# Altium footprint library pcblib.PcbLib: 43 footprints (part 2 of 3)
Each footprint in its own frame and in the unit in brackets; x right, y up, seen from the top. Pads: shape width x height; smd on the part's side, far side on the other; paste and mask are expansions set on the pad; w line width, h text height; cw(c..) or ccw(c..) is an arc to the next point about the centre after c.
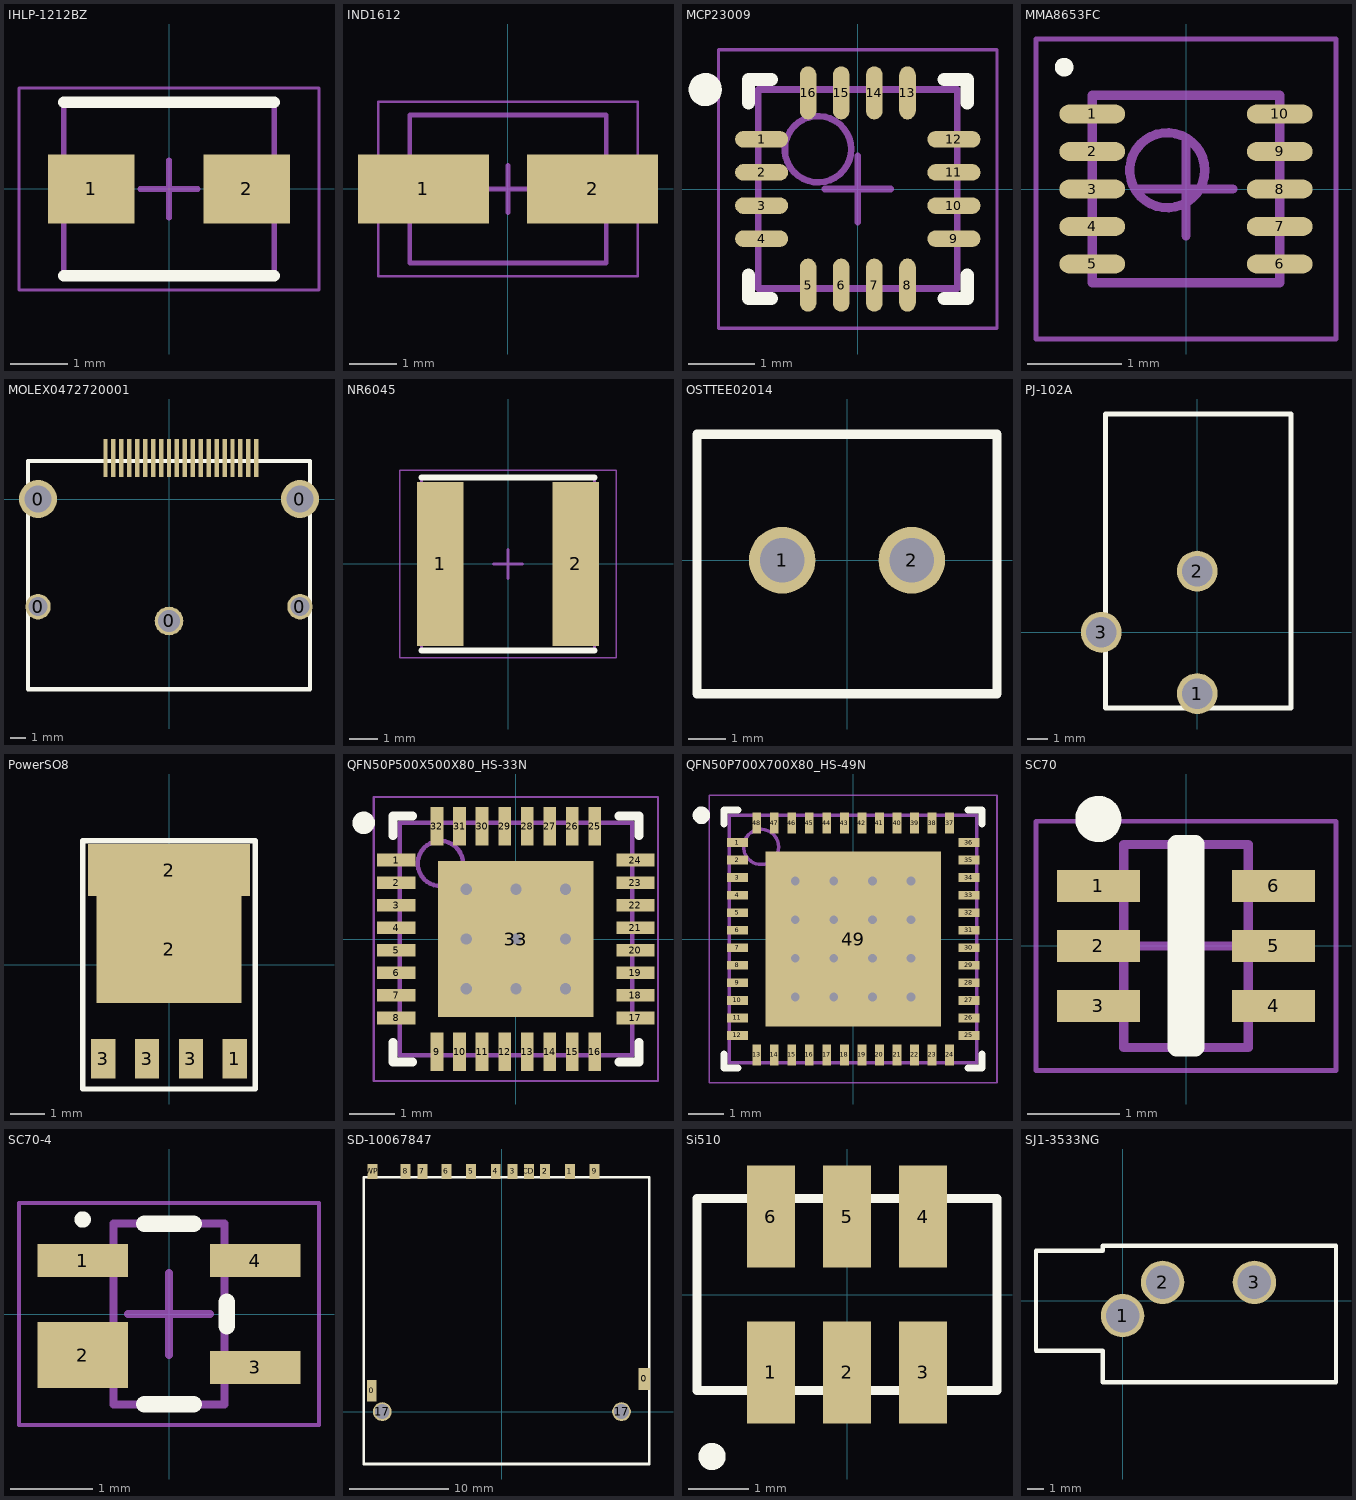
[diagram p1: the footprints below, top view; thin cyan lines are the x and y axes]

## IHLP-1212BZ [mm]
height 2
pads (2):
  rect 1.5x1.2 smd: 1(-1.35,0) 2(1.35,0)
Top Overlay:
  lines w0.2: -1.825,-1.5 1.825,-1.5 ; -1.825,1.5 1.825,1.5
Mechanical 13:
  lines w0.1: -1.825,-1.5 1.825,-1.5 1.825,1.5 -1.825,1.5 -1.825,-1.5
Mechanical 15:
  lines w0.05: -2.6,-1.75 2.6,-1.75 2.6,1.75 -2.6,1.75 -2.6,-1.75
  lines w0.1: -0.5,0 0.5,0 ; 0,-0.5 0,0.5
3D body: height 2, standoff 0, extent 1.625,-1.5 1.825,1.5
3D body: height 2, standoff 0, extent -1.825,-1.5 -1.625,1.5
3D body: height 2, standoff 0, extent -1.625,-1.5 1.625,1.5

## IND1612 [mm]
height 2.62
pads (2):
  rect 2.77x1.47 smd: 1(-1.79,0) 2(1.79,0)
Mechanical 13:
  lines w0.1: -2.08,-1.565 2.08,-1.565 2.08,1.565 -2.08,1.565 -2.08,-1.565
Mechanical 15:
  lines w0.05: -2.75,-1.85 2.75,-1.85 2.75,1.85 -2.75,1.85 -2.75,-1.85
  lines w0.1: -0.5,0 0.5,0 ; 0,-0.5 0,0.5
3D body: height 2.62, standoff 0, extent 0.56,-1.565 2.08,1.565
3D body: height 2.62, standoff 0, extent -2.08,-1.565 -0.56,1.565
3D body: height 2.62, standoff 0, extent -0.56,-1.565 0.56,1.565

## MCP23009 [mm] "QFN, 16-Leads, Body 3.00x3.00mm, Pitch 0.50mm, Thermal Pad 1.20x1.20mm, IPC Medium Density"
height 0.9
pads (16):
  oval 0.8x0.25 smd mask+0.051: 1(-1.45,0.75) 2(-1.45,0.25) 3(-1.45,-0.25) 4(-1.45,-0.75) 9(1.45,-0.75) 10(1.45,-0.25) 11(1.45,0.25) 12(1.45,0.75)
  oval 0.25x0.8 smd mask+0.051: 5(-0.75,-1.45) 6(-0.25,-1.45) 7(0.25,-1.45) 8(0.75,-1.45) 13(0.75,1.45) 14(0.25,1.45) 15(-0.25,1.45) 16(-0.75,1.45)
Top Overlay:
  circle w0.25: c-2.3,1.5 r0.125
  lines w0.2: -1.65,-1.3 -1.65,-1.65 -1.3,-1.65 ; -1.65,1.3 -1.65,1.65 -1.3,1.65 ; 1.3,-1.65 1.65,-1.65 1.65,-1.3 ; 1.3,1.65 1.65,1.65 1.65,1.3
Mechanical 13:
  circle w0.1: c-0.6,0.6 r0.5
  lines w0.1: -1.5,-1.5 -1.5,1.5 1.5,1.5 1.5,-1.5 -1.5,-1.5
Mechanical 15:
  lines w0.05: -2.1,-2.1 -2.1,2.1 2.1,2.1 2.1,-2.1 -2.1,-2.1
  lines w0.1: -0.5,0 0.5,0 ; 0,-0.5 0,0.5
3D body: height 0.9, standoff 0, extent -1.5,-1.5 1.5,1.5

## MMA8653FC [mm]
height 1
pads (10):
  oval 0.7x0.2 smd mask+0.049: 1(-1,0.8) 2(-1,0.4) 3(-1,0) 4(-1,-0.4) 5(-1,-0.8) 6(1,-0.8) 7(1,-0.4) 8(1,0) 9(1,0.4) 10(1,0.8)
Top Overlay:
  circle w0.1: c-1.3,1.3 r0.05
Mechanical 13:
  circle w0.1: c-0.2,0.2 r0.4
  lines w0.1: -1,-1 -1,1 1,1 1,-1 -1,-1
Mechanical 15:
  lines w0.05: -1.6,-1.6 -1.6,1.6 1.6,1.6 1.6,-1.6 -1.6,-1.6
  lines w0.1: -0.5,0 0.5,0 ; 0,-0.5 0,0.5
3D body: height 1, standoff 0, extent -1,-1 1,1

## MOLEX0472720001 [mm]
pads (25):
  round 1.6 hole 1.2: 0(-8.25,-6.78) 0(8.25,-6.78)
  round 2.4 hole 1.7: 0(-8.25,0) 0(8.25,0)
  round 1.8 hole 1.4: 0(0,-7.68)
  rect 0.28x2.4 smd mask+0.051: 1(5.5,2.6) 2(5,2.6) 3(4.5,2.6) 4(4,2.6) 5(3.5,2.6) 6(3,2.6) 7(2.5,2.6) 8(2,2.6) 9(1.5,2.6) 10(1,2.6) 11(0.5,2.6) 12(0,2.6) 13(-0.5,2.6) 14(-1,2.6) 15(-1.5,2.6) 16(-2,2.6) 17(-2.5,2.6) 18(-3,2.6) 19(-3.5,2.6) 20(-4,2.6)
Top Overlay:
  lines w0.254: -8.895,-11.98 8.895,-11.98 8.895,2.41 -8.895,2.41 -8.895,-11.98
3D body: height 6.65, standoff -2.1, extent -8.9,-11.963 8.885,2.927

## NR6045 [mm]
height 4.5
pads (2):
  rect 1.6x5.7 smd: 1(-2.35,0) 2(2.35,0)
Top Overlay:
  lines w0.2: -3,-3 3,-3 ; -3,3 3,3
Mechanical 13:
  lines w0.1: -3,-3 3,-3 3,3 -3,3 -3,-3
Mechanical 15:
  lines w0.05: -3.75,-3.25 3.75,-3.25 3.75,3.25 -3.75,3.25 -3.75,-3.25
  lines w0.1: -0.5,0 0.5,0 ; 0,-0.5 0,0.5
3D body: height 4.5, standoff 0, extent 2.8,-3 3,3
3D body: height 4.5, standoff 0, extent -3,-3 -2.8,3
3D body: height 4.5, standoff 0, extent -2.8,-3 2.8,3

## OSTTEE02014 [mm]
pads (2):
  round 1.8 hole 1.2: 1(-1.75,0) 2(1.75,0)
Top Overlay:
  lines w0.254: -4.05,-3.6 4.05,-3.6 4.05,3.4 -4.05,3.4 -4.05,-3.6

## PJ-102A [mm]
pads (3):
  round 2 hole 1.5: 1(0,-3) 2(0,3) 3(-4.7,0)
Top Overlay:
  lines w0.254: -4.5,-3.7 4.6,-3.7 4.6,10.7 -4.5,10.7 -4.5,-3.7
3D body: height 11.5, standoff -3, extent -4.825,-3.625 4.575,10.775

## PowerSO8 [mm]
pads (6):
  rect 0.7x1.15 smd paste-0.05: 1(1.905,-2.725) 3(-1.905,-2.725) 3(-0.635,-2.725) 3(0.635,-2.725)
  rect 4.2x3.1 smd paste-999 mask+0.075: 2(0,0.45)
  rect 4.7x1.5 smd paste-999 mask+0.075: 2(0,2.75)
Top Overlay:
  lines w0.15: -2.5,-3.6 -2.5,3.6 2.5,3.6 2.5,-3.6 -2.5,-3.6
Top Paste:
  rectangle: -0.925,2.55 -0.325,3.45
  rectangle: 1.575,2.55 2.175,3.45
  rectangle: 0.325,2.55 0.925,3.45
  rectangle: -2.175,2.55 -1.575,3.45
  rectangle: -0.45,-0.85 0.45,-0.25
  rectangle: 0.7,-0.85 1.6,-0.25
  rectangle: -1.6,-0.85 -0.7,-0.25
  rectangle: -0.45,0 0.45,0.6
  rectangle: 0.7,0 1.6,0.6
  rectangle: -1.6,0 -0.7,0.6
  rectangle: -1.6,0.85 -0.7,1.45
  rectangle: 0.7,0.85 1.6,1.45
  rectangle: -0.45,0.85 0.45,1.45

## QFN50P500X500X80_HS-33N [mm] "QFN, 32-Leads, Body 5.00x5.00mm, Pitch 0.50mm, Thermal Pad 3.45x3.45mm, IPC Medium Density"
height 0.8
pads (33):
  rect 0.85x0.28 smd mask+0.051: 1(-2.65,1.75) 2(-2.65,1.25) 3(-2.65,0.75) 4(-2.65,0.25) 5(-2.65,-0.25) 6(-2.65,-0.75) 7(-2.65,-1.25) 8(-2.65,-1.75) 17(2.65,-1.75) 18(2.65,-1.25) 19(2.65,-0.75) 20(2.65,-0.25) 21(2.65,0.25) 22(2.65,0.75) 23(2.65,1.25) 24(2.65,1.75)
  rect 0.28x0.85 smd mask+0.051: 9(-1.75,-2.5) 10(-1.25,-2.5) 11(-0.75,-2.5) 12(-0.25,-2.5) 13(0.25,-2.5) 14(0.75,-2.5) 15(1.25,-2.5) 16(1.75,-2.5) 25(1.75,2.5) 26(1.25,2.5) 27(0.75,2.5) 28(0.25,2.5) 29(-0.25,2.5) 30(-0.75,2.5) 31(-1.25,2.5) 32(-1.75,2.5)
  rect 3.45x3.45 smd paste-1000 mask+0.051: 33(0,0)
via -1.1,1.1 diameter 0.5 hole 0.25
via 0,1.1 diameter 0.5 hole 0.25
via 1.1,1.1 diameter 0.5 hole 0.25
via -1.1,0 diameter 0.5 hole 0.25
via 0,0 diameter 0.5 hole 0.25
via 1.1,0 diameter 0.5 hole 0.25
via -1.1,-1.1 diameter 0.5 hole 0.25
via 0,-1.1 diameter 0.5 hole 0.25
via 1.1,-1.1 diameter 0.5 hole 0.25
Top Overlay:
  circle w0.25: c-3.375,2.575 r0.125
  lines w0.2: -2.725,-2.29 -2.725,-2.725 -2.29,-2.725 ; -2.725,2.29 -2.725,2.725 -2.29,2.725 ; 2.29,-2.725 2.725,-2.725 2.725,-2.29 ; 2.29,2.725 2.725,2.725 2.725,2.29
Top Paste:
  rectangle: 0.15,-1.6 1.6,-0.15
  rectangle: -1.6,-1.6 -0.15,-0.15
  rectangle: 0.15,0.15 1.6,1.6
  rectangle: -1.6,0.15 -0.15,1.6
Mechanical 13:
  circle w0.1: c-1.675,1.675 r0.5
  lines w0.1: -2.575,-2.575 -2.575,2.575 2.575,2.575 2.575,-2.575 -2.575,-2.575
Mechanical 15:
  lines w0.05: -3.15,-3.15 -3.15,3.15 3.15,3.15 3.15,-3.15 -3.15,-3.15
  lines w0.1: -0.5,0 0.5,0 ; 0,-0.5 0,0.5
3D body: height 0.8, standoff 0.01, extent -2.575,-2.575 2.575,2.575

## QFN50P700X700X80_HS-49N [mm] "QFN, 48-Leads, Body 7.00x7.00mm, Pitch 0.50mm, Thermal Pad 5.00x5.00mm, IPC Medium Density"
height 0.8
pads (49):
  rect 0.6x0.25 smd paste+0 mask+0.07: 1(-3.3,2.75) 2(-3.3,2.25) 3(-3.3,1.75) 4(-3.3,1.25) 5(-3.3,0.75) 6(-3.3,0.25) 7(-3.3,-0.25) 8(-3.3,-0.75) 9(-3.3,-1.25) 10(-3.3,-1.75) 11(-3.3,-2.25) 12(-3.3,-2.75) 25(3.3,-2.75) 26(3.3,-2.25) 27(3.3,-1.75) 28(3.3,-1.25) 29(3.3,-0.75) 30(3.3,-0.25) 31(3.3,0.25) 32(3.3,0.75) 33(3.3,1.25) 34(3.3,1.75) 35(3.3,2.25) 36(3.3,2.75)
  rect 0.25x0.6 smd paste+0 mask+0.07: 13(-2.75,-3.3) 14(-2.25,-3.3) 15(-1.75,-3.3) 16(-1.25,-3.3) 17(-0.75,-3.3) 18(-0.25,-3.3) 19(0.25,-3.3) 20(0.75,-3.3) 21(1.25,-3.3) 22(1.75,-3.3) 23(2.25,-3.3) 24(2.75,-3.3) 37(2.75,3.3) 38(2.25,3.3) 39(1.75,3.3) 40(1.25,3.3) 41(0.75,3.3) 42(0.25,3.3) 43(-0.25,3.3) 44(-0.75,3.3) 45(-1.25,3.3) 46(-1.75,3.3) 47(-2.25,3.3) 48(-2.75,3.3)
  rect 5x5 smd paste-999: 49(0,0)
via 1.65,-1.65 diameter 0.5 hole 0.25
via 0.55,-1.65 diameter 0.5 hole 0.25
via -0.55,-1.65 diameter 0.5 hole 0.25
via -1.65,-1.65 diameter 0.5 hole 0.25
via 1.65,-0.55 diameter 0.5 hole 0.25
via 0.55,-0.55 diameter 0.5 hole 0.25
via -0.55,-0.55 diameter 0.5 hole 0.25
via -1.65,-0.55 diameter 0.5 hole 0.25
via 1.65,0.55 diameter 0.5 hole 0.25
via 0.55,0.55 diameter 0.5 hole 0.25
via -0.55,0.55 diameter 0.5 hole 0.25
via -1.65,0.55 diameter 0.5 hole 0.25
via 1.65,1.65 diameter 0.5 hole 0.25
via 0.55,1.65 diameter 0.5 hole 0.25
via -0.55,1.65 diameter 0.5 hole 0.25
via -1.65,1.65 diameter 0.5 hole 0.25
Top Overlay:
  circle w0.25: c-4.325,3.525 r0.125
  lines w0.2: -3.675,-3.275 -3.675,-3.675 -3.275,-3.675 ; -3.675,3.275 -3.675,3.675 -3.275,3.675 ; 3.275,-3.675 3.675,-3.675 3.675,-3.275 ; 3.275,3.675 3.675,3.675 3.675,3.275
Top Paste:
  rectangle: 1.23,-2.16 2.16,-1.23
  rectangle: 0.1,-2.16 1.03,-1.23
  rectangle: -2.16,-2.16 -1.23,-1.23
  rectangle: -1.03,-2.16 -0.1,-1.23
  rectangle: -1.03,0.1 -0.1,1.03
  rectangle: -2.16,0.1 -1.23,1.03
  rectangle: 0.1,0.1 1.03,1.03
  rectangle: 1.23,0.1 2.16,1.03
  rectangle: -1.03,1.23 -0.1,2.16
  rectangle: -2.16,1.23 -1.23,2.16
  rectangle: 0.1,1.23 1.03,2.16
  rectangle: 1.23,1.23 2.16,2.16
  rectangle: -1.03,-1.03 -0.1,-0.1
  rectangle: -2.16,-1.03 -1.23,-0.1
  rectangle: 0.1,-1.03 1.03,-0.1
  rectangle: 1.23,-1.03 2.16,-0.1
Mechanical 13:
  circle w0.1: c-2.625,2.625 r0.5
  lines w0.1: -3.525,-3.525 3.525,-3.525 3.525,3.525 -3.525,3.525 -3.525,-3.525
Mechanical 15:
  lines w0.05: -4.1,-4.1 4.1,-4.1 4.1,4.1 -4.1,4.1 -4.1,-4.1
  lines w0.1: -0.5,0 0.5,0 ; 0,-0.5 0,0.5
3D body: height 0.8, standoff 0, extent -3.525,-3.525 3.525,3.525

## SC70 [mm] "SOT23, 6-Leads, Body 2.00x2.10mm, Pitch 0.65mm, IPC Medium Density"
height 1.1
pads (6):
  rect 0.9x0.35 smd: 1(-0.95,0.65) 2(-0.95,0) 3(-0.95,-0.65) 4(0.95,-0.65) 5(0.95,0) 6(0.95,0.65)
Top Overlay:
  circle w0.25: c-0.95,1.375 r0.125
  lines w0.2: -0.1,-1.1 0.1,-1.1 0.1,1.1 -0.1,1.1 -0.1,-1.1
Mechanical 13:
  lines w0.1: -0.675,-1.1 -0.675,1.1 0.675,1.1 0.675,-1.1 -0.675,-1.1
Mechanical 15:
  lines w0.05: -1.625,-1.35 -1.625,1.35 1.625,1.35 1.625,-1.35 -1.625,-1.35
  lines w0.1: -0.5,0 0.5,0 ; 0,-0.5 0,0.5
3D body: height 1.1, standoff 0.05, extent -0.675,-1.1 0.675,1.1

## SC70-4 [mm] "SOT143, 4-Leads, Body 2.00x2.10mm, Pitch 1.30mm, IPC Medium Density"
height 1.1
pads (4):
  rect 1.1x0.4 smd: 1(-1.05,0.65) 3(1.05,-0.65) 4(1.05,0.65)
  rect 1.1x0.8 smd: 2(-1.05,-0.5)
Top Overlay:
  circle w0.1: c-1.05,1.15 r0.05
  lines w0.2: -0.3,-1.1 0.3,-1.1 ; -0.3,1.1 0.3,1.1 ; 0.7,-0.15 0.7,0.15
Mechanical 13:
  lines w0.1: -0.675,-1.1 -0.675,1.1 0.675,1.1 0.675,-1.1 -0.675,-1.1
Mechanical 15:
  lines w0.05: -1.825,-1.35 -1.825,1.35 1.825,1.35 1.825,-1.35 -1.825,-1.35
  lines w0.1: -0.5,0 0.5,0 ; 0,-0.5 0,0.5
3D body: height 1.1, standoff 0.1, extent -0.675,-1.1 0.675,1.1

## SD-10067847 [mm]
pads (16):
  rect 1x2.2 smd: 0(-13.17,2.1)
  rect 1.2x2.2 smd: 0(14.4,3.3)
  rect 1x1.5 smd: 1(6.875,24.3) 2(4.375,24.3) 2(4.375,24.3) 3(1.075,24.3) 4(-0.625,24.3) 5(-3.125,24.3) 6(-5.625,24.3) 7(-8.05,24.3) 8(-9.75,24.3) 9(9.375,24.3) CD(2.725,24.3) WP(-13.1,24.3)
  round 1.9 hole 1.5: 17(-12.1,0) 17(12.1,0)
Top Overlay:
  lines w0.254: -14,-5.3 -14,23.7 14.9,23.7 14.9,-5.3 -14,-5.3

## Si510 [mm]
pads (6):
  rect 0.8x1.7 smd: 1(-1.27,-1.3) 2(0,-1.3) 3(1.27,-1.3) 4(1.27,1.3) 5(0,1.3) 6(-1.27,1.3)
Top Overlay:
  circle w0.254: c-2.25,-2.7 r0.1
  lines w0.15: -2.5,-1.6 -2.5,1.6 2.5,1.6 2.5,-1.6 -2.5,-1.6

## SJ1-3533NG [mm]
pads (3):
  round 2.6 hole 2: 1(0,-0.9) 2(2.4,1.1) 3(7.9,1.1)
Top Overlay:
  lines w0.254: -5.2,-3 -1.2,-3 -1.2,-4.9 12.8,-4.9 12.8,3.3 -1.2,3.3 -1.2,3 -5.2,3 -5.2,-3
3D body: height 12.3, standoff -3.3, extent -5.175,-4.875 12.875,3.325